# Altium footprint library MT7688A test board library.PcbLib: 24 footprints (part 1 of 2)
Each footprint in its own frame and in the unit in brackets; x right, y up, seen from the top. Pads: shape width x height; smd on the part's side, far side on the other; paste and mask are expansions set on the pad; w line width, h text height; cw(c..) or ccw(c..) is an arc to the next point about the centre after c.
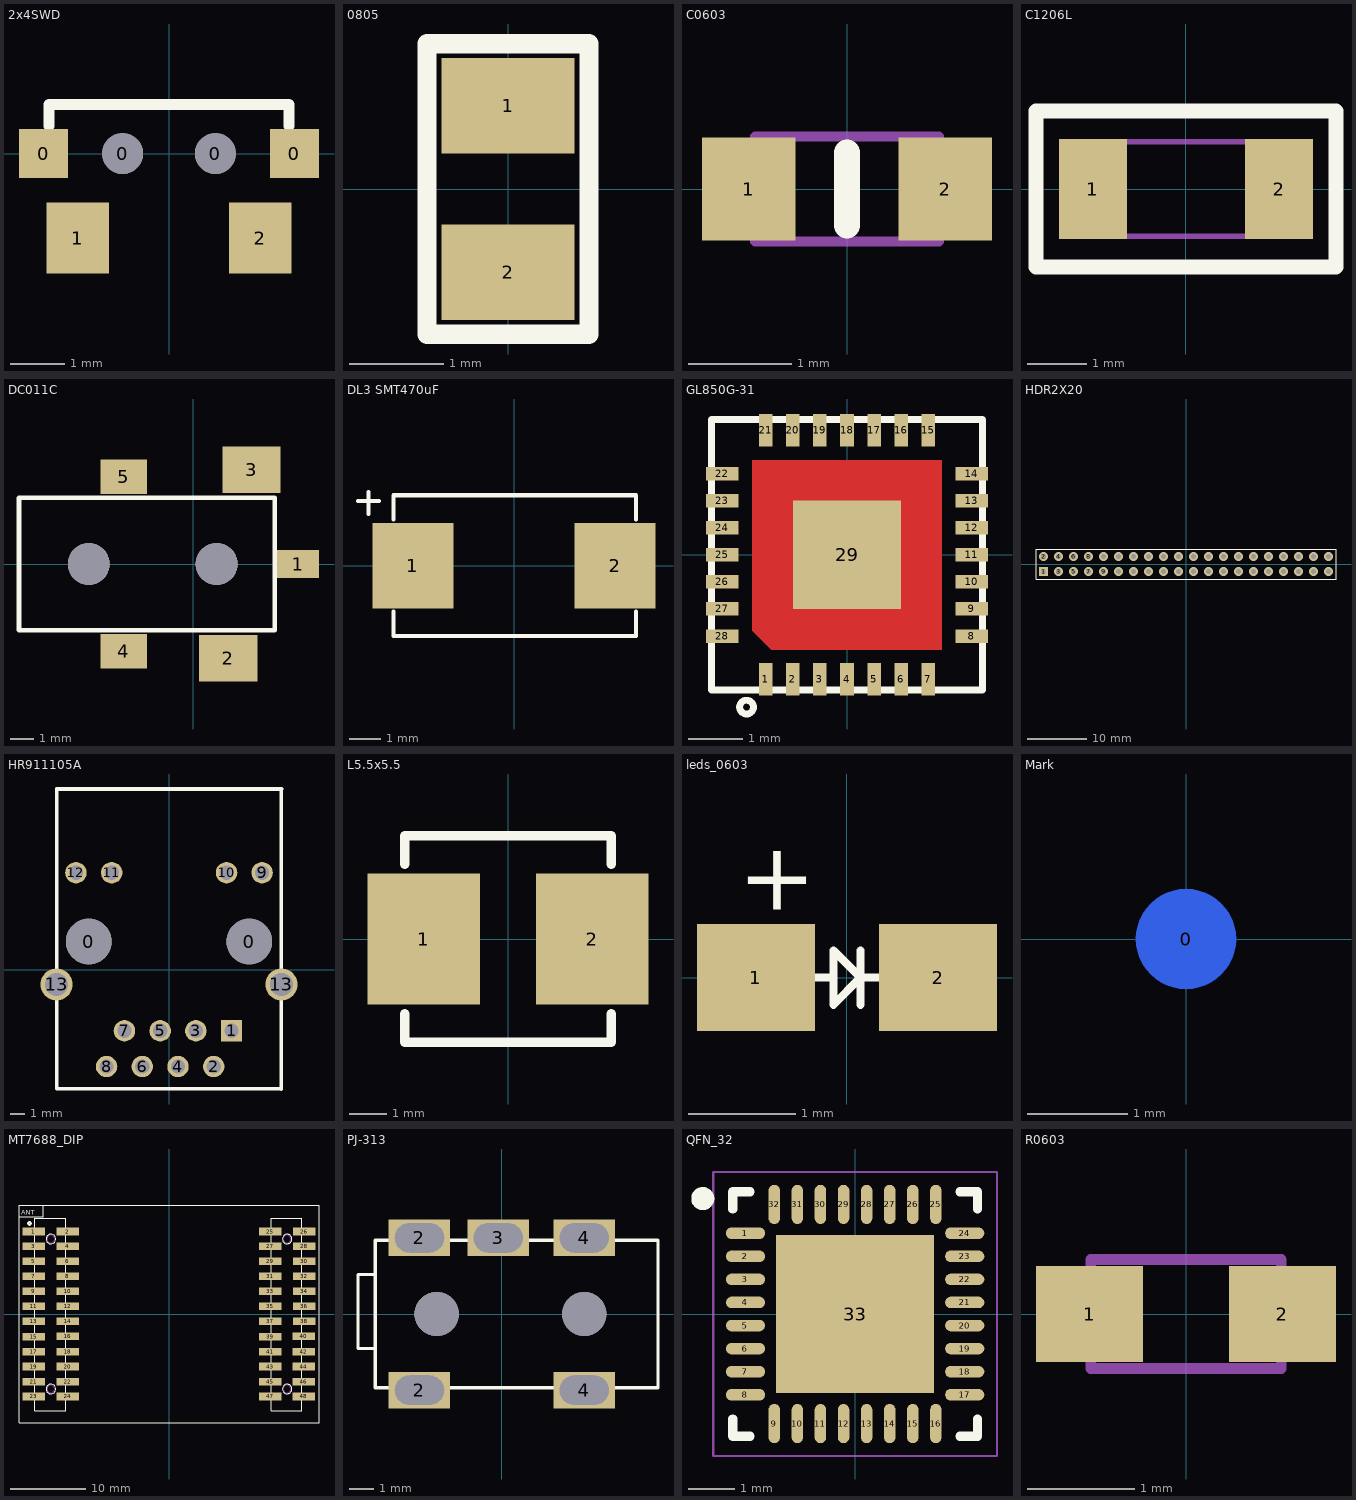
[diagram p0: the footprints below, top view; thin cyan lines are the x and y axes]

## 2x4SWD [mm]
pads (6):
  rect 0.9x0.9 smd: 0(-2.3,0) 0(2.3,0)
  round 0.75 hole 0.75: 0(-0.85,0) 0(0.85,0)
  rect 1.15x1.3 smd: 1(-1.675,-1.55) 2(1.675,-1.55)
Top Overlay:
  lines w0.2: -2.2,0.508 -2.2,0.889 ; -2.2,0.9 2.2,0.9 ; 2.2,0.508 2.2,0.889

## 0805 [mil]
pads (2):
  rect 56x40 smd: 1(0,35) 2(0,-35)
Top Overlay:
  lines w8: -34,-61 34,-61 34,61 -34,61 -34,-61

## C0603 [mm] "Chip Inductor; Body 1.6x0.8mm (LxW typ)"
pads (2):
  rect 0.9x1 smd: 1(-0.95,0) 2(0.95,0)
Top Overlay:
  lines w0.254: 0,-0.35 0,0.35
Mechanical 13:
  lines w0.1: -0.889,-0.508 -0.889,0.508 0.889,0.508 0.889,-0.508 -0.889,-0.508
3D body: height 0.7, standoff 0, extent -0.8,-0.4 0.8,0.4

## C1206L [mm]
pads (2):
  rect 1.15x1.7 smd: 1(-1.575,0) 2(1.575,0)
Top Overlay:
  lines w0.254: -2.54,-1.321 2.54,-1.321 2.54,1.321 -2.54,1.321 -2.54,-1.321
Mechanical 13:
  lines w0.1: -1.575,-0.8 1.575,-0.8 1.575,0.8 -1.575,0.8 -1.575,-0.8
3D body: height 1, standoff 0, extent -1.6,-0.8 1.6,0.8

## DC011C [mm] "0.7mm"
pads (7):
  rect 1.8x1.2 smd: 1(4.5,0)
  rect 2.5x2 smd: 2(1.5,-4.05) 3(2.5,4.05)
  rect 2x1.5 smd: 4(-3,-3.75) 5(-3,3.75)
  round 1.8 hole 1.8 unplated: ""(-4.5,0) ""(1,0)
Top Overlay:
  lines w0.2: -7.5,-2.85 -7.5,2.85 3.5,2.85 3.5,-2.85 -7.5,-2.85

## DL3 SMT470uF [mil]
height 47.24
pads (2):
  rect 100x106 smd: 1(-125,0) 2(125,0)
Top Overlay:
  lines w5: -193,80 -167,80 ; -180,64 -180,91 ; -149,-57 -149,-87 151,-87 151,-57 ; -149,57 -149,87 151,87 151,57

## GL850G-31 [mm]
pads (29):
  rect 0.25x0.6 smd: 1(-1.5,-2.3) 2(-1,-2.3) 3(-0.5,-2.3) 4(0,-2.3) 5(0.5,-2.3) 6(1,-2.3) 7(1.5,-2.3) 15(1.5,2.3) 16(1,2.3) 17(0.5,2.3) 18(0,2.3) 19(-0.5,2.3) 20(-1,2.3) 21(-1.5,2.3)
  rect 0.6x0.25 smd: 8(2.3,-1.5) 9(2.3,-1) 10(2.3,-0.5) 11(2.3,0) 12(2.3,0.5) 13(2.3,1) 14(2.3,1.5) 22(-2.3,1.5) 23(-2.3,1) 24(-2.3,0.5) 25(-2.3,0) 26(-2.3,-0.5) 27(-2.3,-1) 28(-2.3,-1.5)
  rect 2x2 smd: 29(0,0)
Top Layer:
  region: -1.75,1.75 1.75,1.75 1.75,-1.75 -1.4,-1.75 -1.75,-1.4
Top Overlay:
  circle w0.127: c-1.855,-2.812 r0.127
  lines w0.127: -2.5,-2.5 2.5,-2.5 2.5,2.5 -2.5,2.5 -2.5,-2.5
Mechanical 1:
  lines w0.01: -2.5,-2.5 2.5,-2.5 2.5,2.5 -2.5,2.5 -2.5,-2.5

## HDR2X20 [mm] "Connector; Header; 20x2 Position"
pads (40):
  rect 1.5x1.5 hole 0.9: 1(-24.13,-1.27)
  round 1.5 hole 0.9: 2(-24.13,1.27) 3(-21.59,-1.27) 4(-21.59,1.27) 5(-19.05,-1.27) 6(-19.05,1.27) 7(-16.51,-1.27) 8(-16.51,1.27) 9(-13.97,-1.27) 10(-13.97,1.27) 11(-11.43,-1.27) 12(-11.43,1.27) 13(-8.89,-1.27) 14(-8.89,1.27) 15(-6.35,-1.27) 16(-6.35,1.27) 17(-3.81,-1.27) 18(-3.81,1.27) 19(-1.27,-1.27) 20(-1.27,1.27) 21(1.27,-1.27) 22(1.27,1.27) 23(3.81,-1.27) 24(3.81,1.27) 25(6.35,-1.27) 26(6.35,1.27) 27(8.89,-1.27) 28(8.89,1.27) 29(11.43,-1.27) 30(11.43,1.27) 31(13.97,-1.27) 32(13.97,1.27) 33(16.51,-1.27) 34(16.51,1.27) 35(19.05,-1.27) 36(19.05,1.27) 37(21.59,-1.27) 38(21.59,1.27) 39(24.13,-1.27) 40(24.13,1.27)
Top Overlay:
  lines w0.2: -25.4,-2.54 25.4,-2.54 25.4,2.54 -25.4,2.54 -25.4,-2.54

## HR911105A [mil]
pads (16):
  round 127.95 hole 127.95: 0(-224.8,78.54) 0(225.2,78.54)
  rect 60x60 hole 40: 1(175.2,-171.46)
  round 60 hole 40: 2(125.2,-271.46) 3(75.2,-171.46) 4(25.2,-271.46) 5(-24.8,-171.46) 6(-74.8,-271.46) 7(-124.8,-171.46) 8(-174.8,-271.46) 9(260.83,271.46) 10(161.2,271.46) 11(-160.67,271.46) 12(-260.8,271.46)
  round 90 hole 65: 13(-314.96,-41.54) 13(314.96,-41.54)
Top Overlay:
  lines w10: -314.96,-334.06 314.88,-334.06 ; -314.96,-332.3 -314.96,-51.54 -314.96,505.79 -314.8,505.95 315.2,505.95 314.96,505.71 314.96,-51.54 314.96,-334.46
3D body: height 535.43, standoff -114.17, extent -312,-331.72 313.2,510.8

## L5.5x5.5 [mm] "mm,电感5.5x5.5"
height 14
pads (2):
  rect 3x3.5 smd: 1(-2.25,0) 2(2.25,0)
Top Overlay:
  lines w0.254: -2.75,-2 -2.75,-2.75 2.75,-2.75 2.75,-2 ; -2.75,2 -2.75,2.75 2.75,2.75 2.75,2

## leds_0603 [mm]
pads (2):
  rect 1.1x1 smd: 1(-0.85,0) 2(0.85,0)
Top Overlay:
  lines w0.076: -0.381,0 -0.127,0 ; 0.127,-0.254 0.127,0.254 ; 0.508,0 0.127,0 ; 0.127,0 -0.127,0.254 -0.127,-0.254 0.127,0
  text "+" at -1.016,0.635 h0.64

## Mark [mm] "1-3Rmm"
height 2
pads (1):
  round 1 smd far side: 0(0,0)
Bottom Overlay:
  circle w0.127: c0,0 r1.5

## MT7688_DIP [mm]
pads (48):
  rect 3x1 smd: 1(-18,11) 2(-13.5,11) 3(-18,9) 4(-13.5,9) 5(-18,7) 6(-13.5,7) 7(-18,5) 8(-13.5,5) 9(-18,3) 10(-13.5,3) 11(-18,1) 12(-13.5,1) 13(-18,-1) 14(-13.5,-1) 15(-18,-3) 16(-13.508,-2.997) 17(-18,-5) 18(-13.508,-5) 19(-18,-7) 20(-13.508,-7) 21(-18,-9) 22(-13.508,-9) 23(-18,-11) 24(-13.508,-11) 25(13.5,11) 26(18,11) 27(13.5,9) 28(18,9) 29(13.5,7) 30(18,7) 31(13.5,5) 32(18,5) 33(13.5,3) 34(18,3) 35(13.5,1) 36(18,1) 37(13.5,-1) 38(18,-1) 39(13.5,-3) 40(17.992,-2.997) 41(13.5,-5) 42(17.992,-5) 43(13.5,-7) 44(17.992,-7) 45(13.5,-9) 46(17.992,-9) 47(13.5,-11) 48(17.992,-11)
Top Overlay:
  circle w0.127: c15.75,-9.996 r0.637
  circle w0.127: c15.749,9.993 r0.636
  circle w0.254: c-18.6,12.073 r0.18
  circle w0.127: c-15.75,-9.996 r0.637
  circle w0.127: c-15.751,9.993 r0.636
  lines w0.1: -17.871,-12.885 -13.792,-12.885 -13.792,12.756 -17.871,12.756 -17.871,-12.885 ; 13.629,-12.885 17.708,-12.885 17.708,12.756 13.629,12.756 13.629,-12.885
  lines w0.152: -19.939,12.954 -16.764,12.954 -16.764,14.478 ; -20,-14.5 -20,14.5 20,14.5 20,-14.5 -20,-14.5
  text "ANT" at -19.685,13.208 h0.64
Keep-Out Layer:
  circle w0.127: c-15.75,9.998 r0.508
  circle w0.127: c-15.75,-9.997 r0.508
  circle w0.127: c15.75,9.998 r0.508
  circle w0.127: c15.75,-9.997 r0.508

## PJ-313 [mm]
pads (7):
  rect 2.5x1.5 hole 1.2 slot 2 at 0 deg: 2(-3.35,-3.1) 2(-3.35,3.1) 3(-0.15,3.1) 4(3.35,-3.1) 4(3.35,3.1)
  round 1.8 hole 1.8 unplated: ""(-2.65,0) ""(3.35,0)
Top Overlay:
  lines w0.127: -5.15,-1.4 -5.85,-1.4 -5.85,1.6 -5.15,1.6 ; -5.15,-3 -5.15,3 6.35,3 6.35,-3 -5.15,-3

## QFN_32 [mm] "QFN, 32-Leads, Body 5.00x5.00mm, Pitch 0.50mm, Thermal Pad 3.43x3.43mm, IPC Medium Density"
height 1
pads (33):
  oval 0.85x0.25 smd: 1(-2.375,1.75) 2(-2.375,1.25) 3(-2.375,0.75) 4(-2.375,0.25) 5(-2.375,-0.25) 6(-2.375,-0.75) 7(-2.375,-1.25) 8(-2.375,-1.75) 17(2.375,-1.75) 18(2.375,-1.25) 19(2.375,-0.75) 20(2.375,-0.25) 21(2.375,0.25) 22(2.375,0.75) 23(2.375,1.25) 24(2.375,1.75)
  oval 0.25x0.85 smd: 9(-1.75,-2.375) 10(-1.25,-2.375) 11(-0.75,-2.375) 12(-0.25,-2.375) 13(0.25,-2.375) 14(0.75,-2.375) 15(1.25,-2.375) 16(1.75,-2.375) 25(1.75,2.375) 26(1.25,2.375) 27(0.75,2.375) 28(0.25,2.375) 29(-0.25,2.375) 30(-0.75,2.375) 31(-1.25,2.375) 32(-1.75,2.375)
  rect 3.43x3.43 smd: 33(0,0)
Top Overlay:
  circle w0.25: c-3.3,2.5 r0.125
  lines w0.2: -2.65,-2.275 -2.65,-2.65 -2.275,-2.65 ; -2.65,2.275 -2.65,2.65 -2.275,2.65 ; 2.275,-2.65 2.65,-2.65 2.65,-2.275 ; 2.275,2.65 2.65,2.65 2.65,2.275
Mechanical 15:
  lines w0.05: -3.075,-3.075 -3.075,3.075 3.075,3.075 3.075,-3.075 -3.075,-3.075
  lines w0.1: -0.5,0 0.5,0 ; 0,-0.5 0,0.5

## R0603 [mm] "Chip Inductor; Body 1.6x0.8mm (LxW typ)"
pads (2):
  rect 1x0.9 smd: 1(-0.9,0) 2(0.9,0)
Mechanical 13:
  lines w0.1: -0.889,-0.508 -0.889,0.508 0.889,0.508 0.889,-0.508 -0.889,-0.508
3D body: height 0.45, standoff 0, extent -0.775,-0.425 0.775,0.425